# EAGLE library part ADUM1400 (library Bus-isolators)
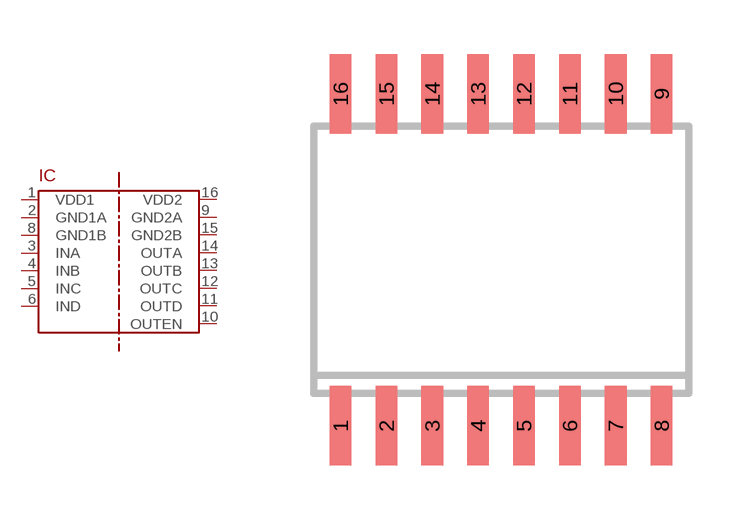
[diagram p7: symbol with the pads of SO16W; footprint SO16W]

Designator prefix IC

## ADUM1400  [SO16W]
1  VDD1  pwr
2  GND1A  pwr
3  INA  in
4  INB  in
5  INC  in
6  IND  in
8  GND1B  pwr
9  GND2A  pwr
10  OUTEN  in
11  OUTD  out
12  OUTC  out
13  OUTB  out
14  OUTA  out
15  GND2B  pwr
16  VDD2  pwr

## Footprint SO16W (pad centres in mm)
SMALL OUTLINE INTEGRATED CIRCUIT wide body 7.5 mm/JEDEC MS-013AA
smd 0.6 x 2.2: 1 -4.445,-4.6; 2 -3.175,-4.6; 3 -1.905,-4.6; 4 -0.635,-4.6; 5 0.635,-4.6; 6 1.905,-4.6; 7 3.175,-4.6; 8 4.445,-4.6; 9 4.445,4.6; 10 3.175,4.6; 11 1.905,4.6; 12 0.635,4.6; 13 -0.635,4.6; 14 -1.905,4.6; 15 -3.175,4.6; 16 -4.445,4.6